# Altium footprint library PCB1.PcbLib: 28 footprints (part 1 of 2)
Each footprint in its own frame and in the unit in brackets; x right, y up, seen from the top. Pads: shape width x height; smd on the part's side, far side on the other; paste and mask are expansions set on the pad; w line width, h text height; cw(c..) or ccw(c..) is an arc to the next point about the centre after c.
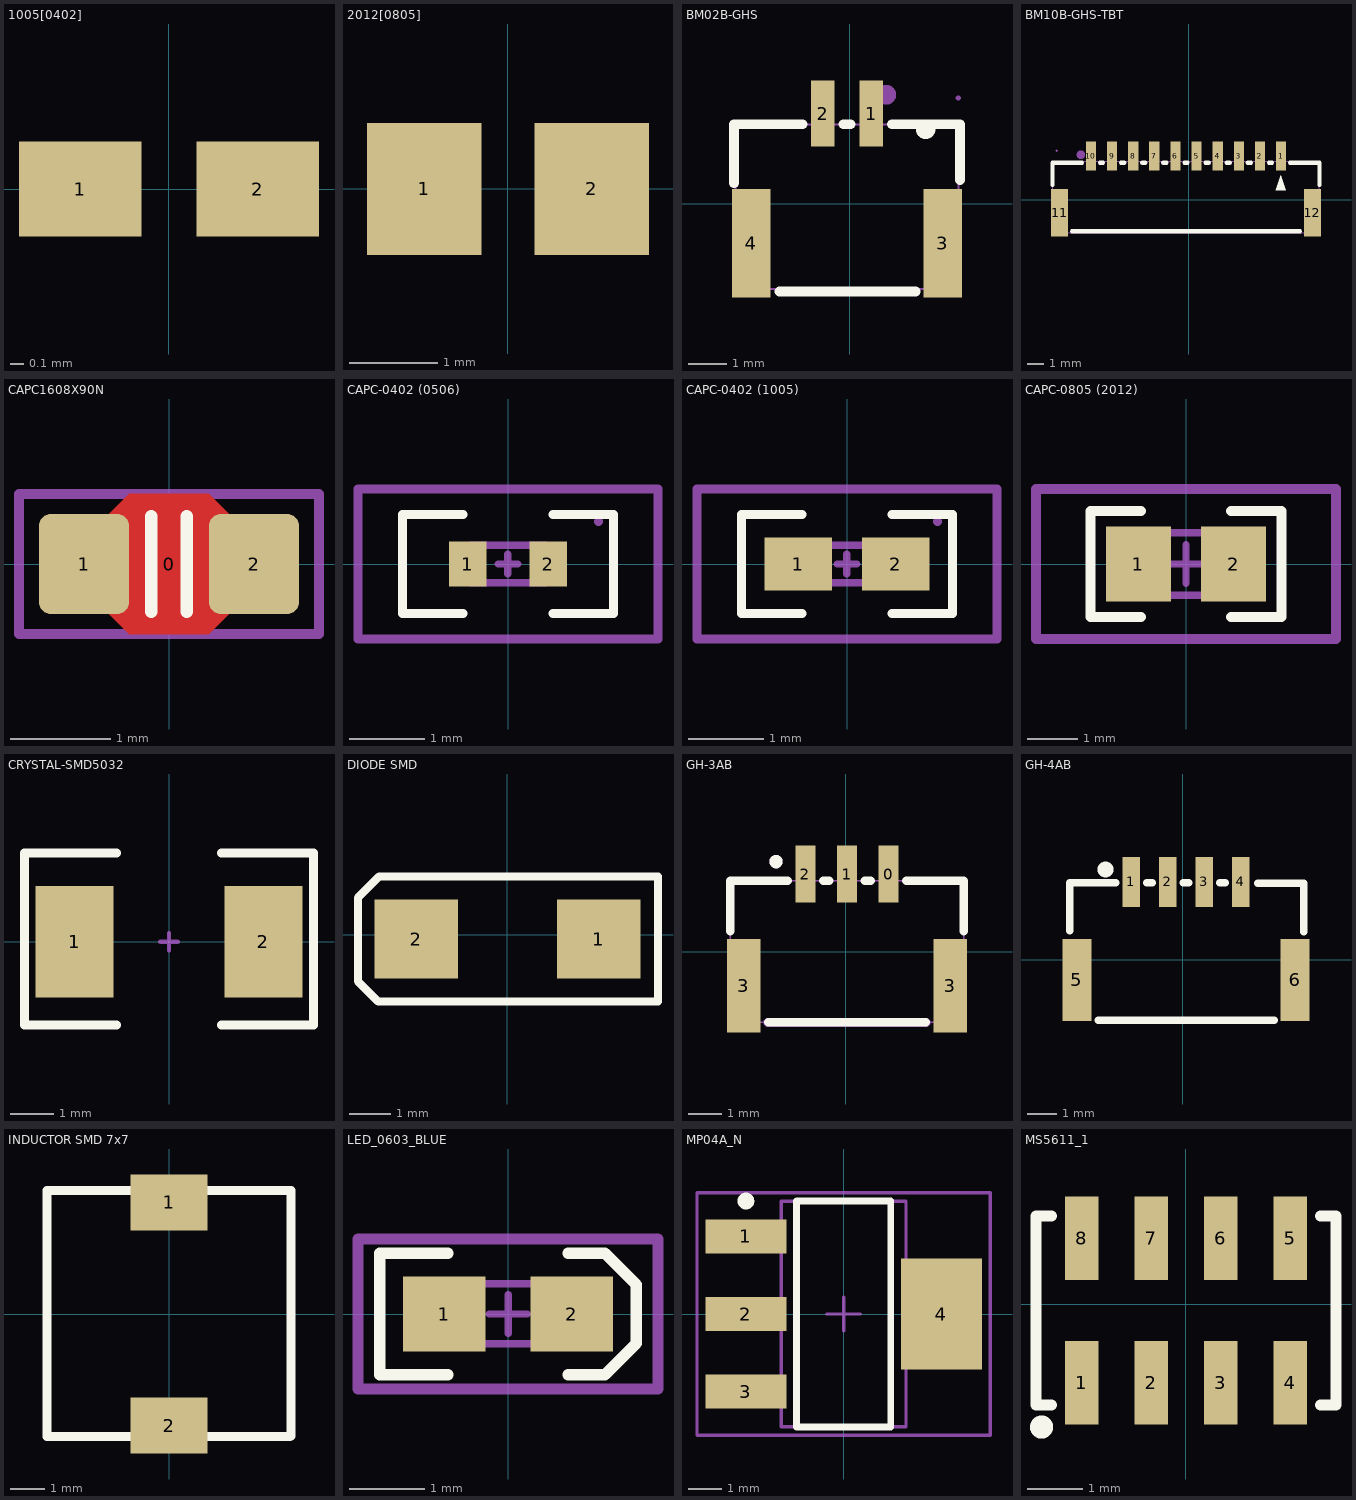
[diagram p0: the footprints below, top view; thin cyan lines are the x and y axes]

## 1005[0402] [mm]
height 19.3
pads (2):
  rect 0.9x0.7 smd: 1(-0.65,0) 2(0.65,0)

## 2012[0805] [mm]
height 19.3
pads (2):
  rect 1.3x1.5 smd: 1(-0.95,0) 2(0.95,0)

## BM02B-GHS [mm]
pads (4):
  rect 0.6x1.7 smd: 1(0.552,2.337) 2(-0.698,2.337)
  rect 1x2.8 smd: 3(2.402,-1.013) 4(-2.548,-1.013)
Top Overlay:
  circle w0.254: c1.959,1.932 r0.127
  lines w0.254: -2.994,0.535 -2.994,2.059 -1.216,2.059 ; -1.817,-2.259 1.705,-2.259 ; -0.167,2.059 0.021,2.059 ; 1.083,2.059 2.848,2.059 2.848,0.618
Mechanical 6:
  circle w0.254: c0.943,2.821 r0.127
Top Courtyard:
  region: -0.798,2.737 -0.598,2.737 -0.598,1.937 -0.798,1.937
  region: 0.452,2.737 0.652,2.737 0.652,1.937 0.452,1.937
  region: -2.723,-0.198 -2.373,-0.198 -2.373,-2.198 -2.723,-2.198
  region: 2.577,-2.198 2.227,-2.198 2.227,-0.198 2.577,-0.198
  region: 2.862,2.737 2.862,2.712 2.827,2.677 2.777,2.677 2.742,2.712 2.742,2.737 2.742,2.762 2.777,2.797 2.827,2.797 2.862,2.762
  lines w0.051: -2.948,-2.198 2.802,-2.198 2.802,2.052 -2.948,2.052 -2.948,-2.198

## BM10B-GHS-TBT [mm]
pads (12):
  rect 0.6x1.7 smd: 1(5.472,2.591) 2(4.222,2.591) 3(2.972,2.591) 4(1.722,2.591) 5(0.472,2.591) 6(-0.778,2.591) 7(-2.028,2.591) 8(-3.278,2.591) 9(-4.528,2.591) 10(-5.778,2.591)
  rect 1x2.8 smd: 11(-7.628,-0.759) 12(7.322,-0.759)
Top Overlay:
  region: 5.147,0.566 5.747,0.566 5.447,1.466
  lines w0.254: -8.053,0.872 -8.053,2.196 -6.309,2.196 ; -6.897,-1.854 6.591,-1.854 ; -5.247,2.196 -5.059,2.196 ; -3.997,2.196 -3.809,2.196 ; -2.747,2.196 -2.559,2.196 ; -1.497,2.196 -1.309,2.196 ; -0.247,2.196 -0.059,2.196 ; 1.003,2.196 1.191,2.196 ; 2.253,2.196 2.441,2.196 ; 3.503,2.196 3.691,2.196 ; 4.753,2.196 4.941,2.196 ; 6.003,2.196 7.747,2.196 7.747,0.872
Mechanical 6:
  circle w0.254: c-6.373,2.666 r0.127
Top Courtyard:
  region: 7.222,0.041 7.422,0.041 7.422,-1.959 7.222,-1.959
  region: -7.728,0.041 -7.528,0.041 -7.528,-1.959 -7.728,-1.959
  region: -5.878,2.996 -5.678,2.996 -5.678,1.796 -5.878,1.796
  region: -4.628,2.996 -4.428,2.996 -4.428,1.796 -4.628,1.796
  region: -3.378,2.996 -3.178,2.996 -3.178,1.796 -3.378,1.796
  region: -2.128,2.996 -1.928,2.996 -1.928,1.796 -2.128,1.796
  region: -0.878,2.996 -0.678,2.996 -0.678,1.796 -0.878,1.796
  region: 0.372,2.996 0.572,2.996 0.572,1.796 0.372,1.796
  region: 1.622,2.996 1.822,2.996 1.822,1.796 1.622,1.796
  region: 2.872,2.996 3.072,2.996 3.072,1.796 2.872,1.796
  region: 4.122,2.996 4.322,2.996 4.322,1.796 4.122,1.796
  region: 5.372,2.996 5.572,2.996 5.572,1.796 5.372,1.796
  region: -7.753,2.916 -7.753,2.891 -7.788,2.856 -7.838,2.856 -7.873,2.891 -7.873,2.916 -7.873,2.941 -7.838,2.976 -7.788,2.976 -7.753,2.941
  lines w0.051: -8.033,-1.959 -8.033,2.291 7.717,2.291 7.717,-1.959 -8.033,-1.959

## CAPC1608X90N [mm] "Chip Capacitor, Body 1.6x0.8mm, EIA 0603, IPC Medium Density"
height 0.9
pads (3):
  round 0.254 on Mech15: 0(0,0)
  rrect25% 0.9x1 smd: 1(-0.85,0) 2(0.85,0)
Top Layer:
  pour cut-out: -0.6,0.5 -0.4,0.7 0.4,0.7 0.6,0.5 0.6,-0.5 0.4,-0.7 -0.4,-0.7 -0.6,-0.5
Top Overlay:
  lines w0.127: -0.178,-0.476 -0.178,0.476 ; 0.178,-0.476 0.178,0.476
Top 3D Body:
  lines w0.05: -0.55,-0.43 0.55,-0.43 ; -0.55,0.43 0.55,0.43 ; -0.85,-0.45 -0.85,0.45 -0.55,0.45 -0.55,-0.45 -0.85,-0.45 ; 0.55,-0.45 0.55,0.45 0.85,0.45 0.85,-0.45 0.55,-0.45
Top Courtyard:
  lines w0.1: -1.5,-0.7 -1.5,0.7 1.5,0.7 1.5,-0.7 -1.5,-0.7
3D body "CAP_0603.STEP": height 0.89, standoff -0.01, extent -0.85,-0.45 0.85,0.45

## CAPC-0402 (0506) [mm] "Resistor Chip, Body 0.5x0.6mm, IPC High Density"
height 0.55
pads (2):
  rect 0.5x0.6 smd mask+0.1: 1(-0.533,0) 2(0.533,0)
Top Overlay:
  lines w0.12: -0.6,-0.66 -1.41,-0.66 -1.41,0.66 -0.6,0.66 ; 0.6,-0.66 1.41,-0.66 1.41,0.66 0.6,0.66
Top 3D Body:
  lines w0.1: -0.127,0 0.127,0 ; 0,-0.127 0,0.127 ; -0.5,-0.25 -0.5,0.25 0.5,0.25 0.5,-0.25 -0.5,-0.25
Top Courtyard:
  lines w0.12: -2,-1 2,-1 2,1 -2,1 -2,-1 ; 1.205,0.565 1.205,0.565
  text ".Designator" at -0.94,-0.178 h0.64
3D body "User Library-Chip Cap_MLCC_0402 (1005) (1).step": height 0.5, standoff 0, extent -0.5,-0.25 0.5,0.25

## CAPC-0402 (1005) [mm] "Resistor Chip, Body 1.0x0.5mm, IPC High Density"
height 0.55
pads (2):
  rect 0.9x0.7 smd mask+0.1: 1(-0.65,0) 2(0.65,0)
Top Overlay:
  lines w0.12: -0.6,-0.66 -1.41,-0.66 -1.41,0.66 -0.6,0.66 ; 0.6,-0.66 1.41,-0.66 1.41,0.66 0.6,0.66
Top 3D Body:
  lines w0.1: -0.127,0 0.127,0 ; 0,-0.127 0,0.127 ; -0.5,-0.25 -0.5,0.25 0.5,0.25 0.5,-0.25 -0.5,-0.25
Top Courtyard:
  lines w0.12: -2,-1 2,-1 2,1 -2,1 -2,-1 ; 1.205,0.565 1.205,0.565
  text ".Designator" at -0.94,-0.178 h0.8
3D body "User Library-Chip Cap_MLCC_0402 (1005) (1).step": height 0.5, standoff 0, extent -0.5,-0.25 0.5,0.25

## CAPC-0805 (2012) [mm] "Resistor, Chip; 2.00 mm L X 1.25 mm W X 0.70 mm H body"
height 0.7
pads (2):
  rect 1.3x1.5 smd: 1(-0.95,0) 2(0.95,0)
Top Overlay:
  lines w0.2: -0.9,-1.06 -1.91,-1.06 -1.91,1.06 -0.9,1.06 ; 0.9,-1.06 1.91,-1.06 1.91,1.06 0.9,1.06
Top 3D Body:
  lines w0.15: -0.381,0 0.381,0 ; 0,-0.381 0,0.381 ; -1.003,-0.625 -1.003,0.625 0.997,0.625 0.997,-0.625 -1.003,-0.625
Top Courtyard:
  lines w0.2: -3,-1.5 -3,1.5 3,1.5 3,-1.5 -3,-1.5
  text ".Designator" at -1.527,-0.381 h0.64
3D body "CAPC200X125X70L50.STEP": height 0.7, standoff 0, extent -1,-0.625 1,0.625

## CRYSTAL-SMD5032 [mil] "DO-214-AA/SMB; 2 C-Bend Leads; Body 5.3 x 3.6 mm, inc. leads (LxW)"
height 100
pads (2):
  rect 70x100 smd: 1(-85,0) 2(85,0)
Top Overlay:
  lines w7.87: -47.24,-75 -130,-75 -130,80 -47.24,80 ; 47.24,-75 130,-75 130,80 47.24,80
Mechanical 1:
  lines w3.94: -7.87,0 7.87,0 ; 0,-7.87 0,7.87
3D body "User Library-ABM3-1.STEP": height 51.18, standoff 0, extent -98.42,-62.99 98.43,63

## DIODE SMD [mm]
height 19.3
pads (2):
  rect 2x1.9 smd: 1(2.184,-0.102) 2(-2.184,-0.102)
Top Overlay:
  lines w0.2: -3.581,-1.118 -3.099,-1.6 3.607,-1.6 3.607,1.397 -3.073,1.397 -3.581,0.889 -3.581,-0.344 -3.581,-1.118
3D body "SMB.STEP": height 2.3, standoff 0.02, extent -2.667,-1.498 2.82,1.296

## GH-3AB [mm]
pads (5):
  rect 0.6x1.7 smd: 0(1.294,2.337) 1(0.044,2.337) 2(-1.206,2.337)
  rect 1x2.8 smd: 3(-3.056,-1.013) 3(3.144,-1.013)
Top Overlay:
  circle w0.2: c-2.086,2.707 r0.1
  lines w0.254: -3.456,0.618 -3.456,2.137 -1.737,2.137 ; -2.325,-2.113 2.413,-2.113 ; -0.675,2.137 -0.487,2.137 ; 0.575,2.137 0.763,2.137 ; 1.825,2.137 3.544,2.137 3.544,0.618
Mechanical 6:
  circle w0.2: c-2.086,2.707 r0.1
  region: -2.325,-1.986 2.413,-1.986 2.466,-1.986 2.54,-2.06 2.54,-2.166 2.466,-2.24 2.413,-2.24 -2.325,-2.24 -2.377,-2.24 -2.452,-2.166 -2.452,-2.06 -2.377,-1.986
Top Courtyard:
  region: -3.206,-0.013 -2.906,-0.013 -2.906,-2.013 -3.206,-2.013
  region: 2.994,-0.013 3.294,-0.013 3.294,-2.013 2.994,-2.013
  region: 1.194,2.837 1.394,2.837 1.394,1.837 1.194,1.837
  region: -0.056,2.837 0.144,2.837 0.144,1.837 -0.056,1.837
  region: -1.306,2.837 -1.106,2.837 -1.106,1.837 -1.306,1.837
  lines w0.051: -3.456,-2.113 3.544,-2.113 3.544,2.137 -3.456,2.137 -3.456,-2.113

## GH-4AB [mm]
pads (6):
  rect 0.6x1.7 smd paste+0 mask+0.05: 1(-1.758,2.667) 2(-0.508,2.667) 3(0.742,2.667) 4(1.992,2.667)
  rect 1x2.8 smd paste+0 mask+0.05: 5(-3.608,-0.683) 6(3.842,-0.683)
Top Overlay:
  region: -2.901,3.092 -2.901,3.145 -2.86,3.244 -2.785,3.32 -2.686,3.36 -2.579,3.36 -2.481,3.32 -2.405,3.244 -2.364,3.145 -2.364,3.092 -2.364,3.039 -2.405,2.94 -2.481,2.864 -2.579,2.824 -2.686,2.824 -2.785,2.864 -2.86,2.94 -2.901,3.039
  lines w0.254: -3.862,0.992 -3.862,2.643 -2.289,2.643 ; -2.877,-2.056 3.125,-2.056 ; -1.227,2.643 -1.039,2.643 ; 0.023,2.643 0.211,2.643 ; 1.273,2.643 1.461,2.643 ; 2.572,2.619 4.141,2.619 4.141,0.968

## INDUCTOR SMD 7x7 [mm]
height 19.3
pads (2):
  rect 2.2x1.6 smd: 1(0,3.2) 2(0,-3.2)
Top Overlay:
  lines w0.254: -3.5,3.5 -3.5,-3.516 3.475,-3.516 ; -3.5,3.541 3.5,3.541 ; 3.5,-3.5 3.5,3.5

## LED_0603_BLUE [mm] "LED SMD; Body 1.6 x 0.8 mm (LxW typ)"
height 0.75
pads (2):
  rect 1.1x1 smd mask+0.1: 1(-0.851,0) 2(0.849,0)
Top Overlay:
  lines w0.15: -0.801,-0.81 -1.711,-0.81 -1.711,0.81 -0.801,0.81 ; 0.799,-0.81 1.29,-0.81 1.709,-0.391 1.709,0.391 1.29,0.81 0.799,0.81
Top 3D Body:
  lines w0.1: -0.254,0 0.254,0 ; 0,-0.254 0,0.254 ; -0.8,-0.4 -0.8,0.4 0.8,0.4 0.8,-0.4 -0.8,-0.4
Top Courtyard:
  lines w0.15: -2.001,-1 -2.001,1 1.999,1 1.999,-1 -2.001,-1
  text ".Designator" at -1.2,-0.254 h0.64
3D body: height 0.18, standoff 0, extent -0.8,-0.4 0.8,0.4
3D body: height 0.75, standoff 0.18, extent -0.6,-0.4 0.6,0.4

## MP04A_N [mm]
height 19.3
pads (4):
  rect 2.4x1 smd: 1(-2.9,2.3) 2(-2.9,0) 3(-2.9,-2.3)
  rect 2.4x3.3 smd: 4(2.9,0)
Top Overlay:
  circle w0.25: c-2.9,3.35 r0.125
  lines w0.2: -1.4,-3.35 1.4,-3.35 1.4,3.35 -1.4,3.35 -1.4,-3.35
Top 3D Body:
  lines w0.1: -1.85,-3.35 1.85,-3.35 1.85,3.35 -1.85,3.35 -1.85,-3.35
Top Courtyard:
  lines w0.1: -0.5,0 0.5,0 ; 0,-0.5 0,0.5 ; -4.35,-3.6 4.35,-3.6 4.35,3.6 -4.35,3.6 -4.35,-3.6
3D body: height 1.8, standoff 0, extent -1.85,-3.35 1.85,3.35

## MS5611_1 [mm]
pads (8):
  rect 0.6x1.5 smd paste+0 mask+0.051: 1(-1.869,-1.407) 2(-0.619,-1.407) 3(0.631,-1.407) 4(1.881,-1.407) 5(1.881,1.193) 6(0.631,1.193) 7(-0.619,1.193) 8(-1.869,1.193)
Top Overlay:
  lines w0.2: -2.419,-1.807 -2.694,-1.807 -2.694,1.593 -2.419,1.593 ; 2.431,-1.807 2.706,-1.807 2.706,1.593 2.431,1.593
  lines w0.254: -2.595,-2.126 ccw(c-2.594,-2.206) -2.592,-2.126